# Altium schematic symbol library ECS-40-20-5PXDU-TR.SchLib: 1 symbol
Pins are listed as number, name and electrical type; pins without a type are passive.

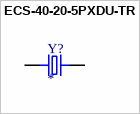
[diagram p0: symbol ECS-40-20-5PXDU-TR]

## ECS-40-20-5PXDU-TR
designator Y?
CRYSTAL SMD; MP: ECS-40-20-5PXDU-TR; Package: None; Price: None; Value: *; Availability: Unavailable
footprint XTAL_ECS-40-20-5PXDU-TR
pins: 1, 2